# Altium schematic symbol library chaves.SchLib: 1 symbol
Pins are listed as number, name and electrical type; pins without a type are passive.

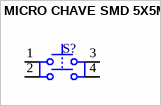
[diagram p0: symbol MICRO CHAVE SMD 5X5MM]

## MICRO CHAVE SMD 5X5MM
designator S?  (value not drawn)
Tactile Micro Switch, SMD, 5x5mm
footprint TACTILE_SWITCH_SMD_5.2MM
pins: 1, 2, 3, 4